# Altium schematic symbol library ABM10AIG.Schlib: 1 symbol
Pins are listed as number, name and electrical type; pins without a type are passive.

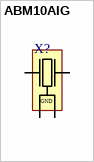
[diagram p0: symbol ABM10AIG]

## ABM10AIG
designator X?
Automotive Grade Ceramic Base SMD Crystal
pins: 1, 2 (power), 3, 4 (power)
text: GND